# Altium integrated library CRCW080511K8FKEC.IntLib: 1 symbol
Pins are listed as number, name and electrical type; pins without a type are passive.

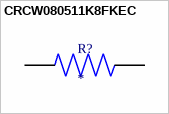
[diagram p0: symbol CRCW080511K8FKEC]

## CRCW080511K8FKEC
designator R?
Res Thick Film 0805 11.8K Ohm 1% 0.125W(1/8W) Â±100ppm/C Molded SMD Automotive Paper T/R; MF: Vishay; MP: CRCW080511K8FKEC; SnapEDA_Link: https://www.snapeda.com/parts/CRCW080511K8FKEC/Vishay/view-part/?ref=snap; Package: 2012 Vishay; Value: *; Check_prices: https://www.snapeda.com/parts/CRCW080511K8FKEC/Vishay/view-part/?ref=eda
footprint RESC2012X50N
pins: 1, 2